# Altium integrated library 74HC4051BQ_115.IntLib: 1 symbol
Pins are listed as number, name and electrical type; pins without a type are passive.

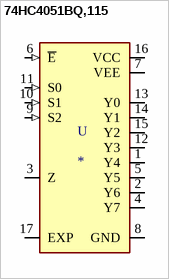
[diagram p0: symbol 74HC4051BQ,115]

## 74HC4051BQ,115
designator U
1 Circuit IC Switch 8:1 120Ohm 16-DHVQFN _2.5x3.5_; MF: Nexperia USA; MP: 74HC4051BQ,115; Value: *; SnapEDA_Link: https://www.snapeda.com/parts/74HC4051BQ%2C115/Nexperia%20USA%20Inc./view-part/523294/?ref=snap; Availability: Unavailable; Package: DHVQFN-16 NXP Semiconductors; Price: None
footprint QFN50P250X350X100-17N
pins: 1 Y4 (io), 2 Y6 (io), 3 Z (io), 4 Y7 (io), 5 Y5 (io), 6 ~{E} (in), 7 VEE (power), 8 GND (power), 9 S2 (in), 10 S1 (in), 11 S0 (in), 12 Y3 (io), 13 Y0 (io), 14 Y1 (io), 15 Y2 (io), 16 VCC (power), 17 EXP (power)